# Altium footprint library smdUtilities.PcbLib: 59 footprints (part 2 of 4)
Each footprint in its own frame and in the unit in brackets; x right, y up, seen from the top. Pads: shape width x height; smd on the part's side, far side on the other; paste and mask are expansions set on the pad; w line width, h text height; cw(c..) or ccw(c..) is an arc to the next point about the centre after c.
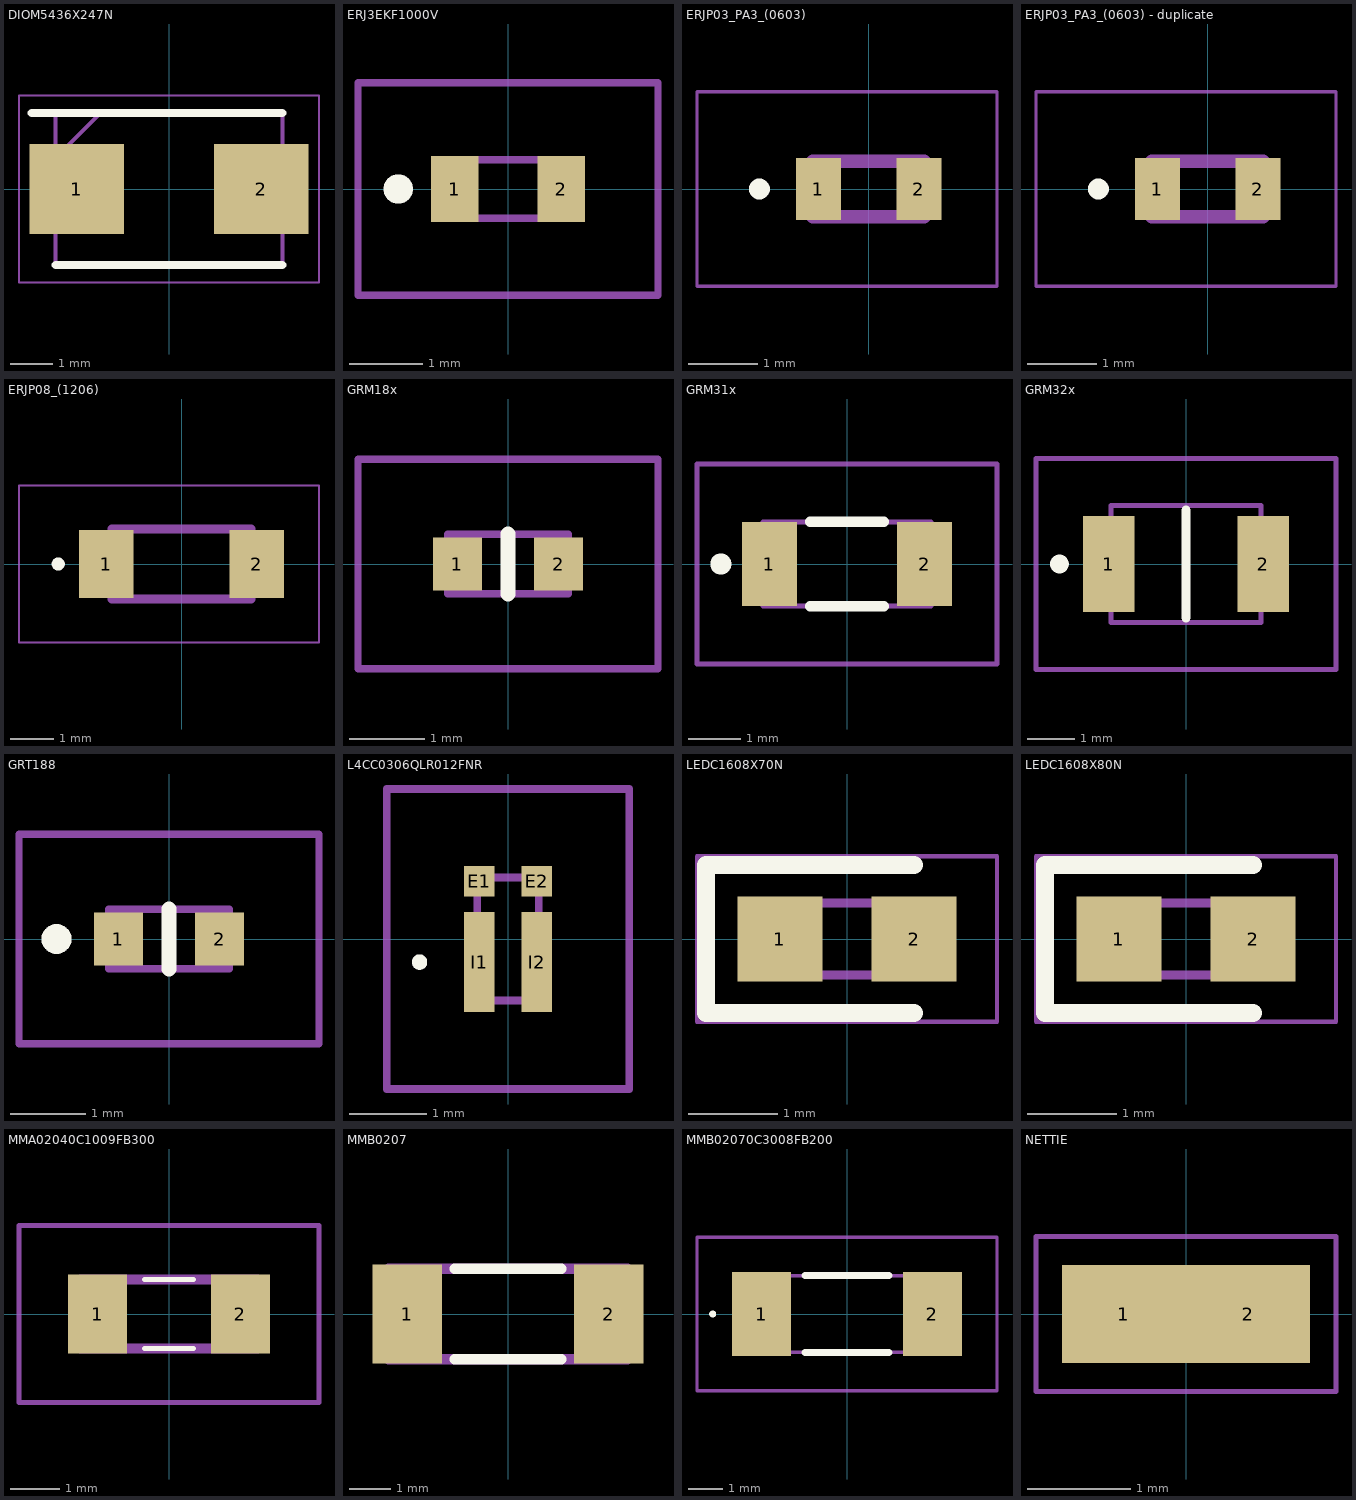
[diagram p1: the footprints below, top view; thin cyan lines are the x and y axes]

## DIOM5436X247N [mm]
pads (2):
  rect 2.25x2.15 smd: 1(-2.2,0) 2(2.2,0)
Top Overlay:
  lines w0.2: -3.275,1.812 2.702,1.812 ; -2.702,-1.812 2.702,-1.812
Mechanical 13:
  lines w0.1: -2.702,0.738 -1.628,1.812 ; -2.702,-1.812 -2.702,1.812 2.702,1.812 2.702,-1.812 -2.702,-1.812
Mechanical 15:
  lines w0.05: -3.575,-2.225 -3.575,2.225 3.575,2.225 3.575,-2.225 -3.575,-2.225
3D body "1SMB5939BT3G.stp": height 2.47, standoff 0, extent -2.702,-1.813 2.702,1.813

## ERJ3EKF1000V [mm]
pads (2):
  rect 0.65x0.9 smd: 1(-0.725,0) 2(0.725,0)
Top Overlay:
  lines w0.2: -1.5,-0.1 cw(c-1.5,0) -1.5,0.1 cw(c-1.5,0) -1.5,-0.1
Mechanical 13:
  lines w0.1: -0.8,-0.4 0.8,-0.4 0.8,0.4 -0.8,0.4 -0.8,-0.4
Mechanical 15:
  lines w0.1: -2.05,-1.45 2.05,-1.45 2.05,1.45 -2.05,1.45 -2.05,-1.45
3D body "ERJ-3GEY0R00V.stp": height 0.45, standoff 0, extent -0.8,-0.4 0.8,0.4

## ERJP03_PA3_(0603) [mm]
pads (2):
  rect 0.65x0.9 smd: 1(-0.725,0) 2(0.725,0)
Top Overlay:
  circle w0.2: c-1.575,0 r0.05
Mechanical 13:
  lines w0.2: -0.8,-0.4 -0.8,0.4 0.8,0.4 0.8,-0.4 -0.8,-0.4
Mechanical 15:
  lines w0.05: -2.475,-1.4 -2.475,1.4 1.85,1.4 1.85,-1.4 -2.475,-1.4
3D body "ERJ-PA3F1000V.stp": height 0.45, standoff 0, extent -0.8,-0.4 0.8,0.4

## ERJP03_PA3_(0603) - duplicate [mm]
pads (2):
  rect 0.65x0.9 smd: 1(-0.725,0) 2(0.725,0)
Top Overlay:
  circle w0.2: c-1.575,0 r0.05
Mechanical 13:
  lines w0.2: -0.8,-0.4 -0.8,0.4 0.8,0.4 0.8,-0.4 -0.8,-0.4
Mechanical 15:
  lines w0.05: -2.475,-1.4 -2.475,1.4 1.85,1.4 1.85,-1.4 -2.475,-1.4
3D body "ERJ-PA3F1101V.stp": height 0.45, standoff 0, extent -0.8,-0.4 0.8,0.4

## ERJP08_(1206) [mm]
pads (2):
  rect 1.25x1.55 smd: 1(-1.725,0) 2(1.725,0)
Top Overlay:
  circle w0.2: c-2.825,0 r0.05
Mechanical 13:
  lines w0.2: -1.6,-0.8 -1.6,0.8 1.6,0.8 1.6,-0.8 -1.6,-0.8
Mechanical 15:
  lines w0.05: -3.725,-1.8 -3.725,1.8 3.15,1.8 3.15,-1.8 -3.725,-1.8
3D body "ERJ-P08J152V.stp": height 0.6, standoff 0, extent -1.6,-0.8 1.6,0.8

## GRM18x [mm]
pads (2):
  rect 0.65x0.7 smd: 1(-0.675,0) 2(0.675,0)
Top Overlay:
  lines w0.2: 0,-0.4 0,0.4
Mechanical 13:
  lines w0.1: -0.8,-0.4 0.8,-0.4 0.8,0.4 -0.8,0.4 -0.8,-0.4
Mechanical 15:
  lines w0.1: -2,-1.4 2,-1.4 2,1.4 -2,1.4 -2,-1.4
3D body "GRM188R61E106KA73D.stp": height 0.8, standoff 0, extent -0.8,-0.45 0.8,0.45

## GRM31x [mm]
pads (2):
  rect 1.05x1.6 smd: 1(-1.475,0) 2(1.475,0)
Top Overlay:
  lines w0.2: -0.7,-0.8 0.7,-0.8 ; -0.7,0.8 0.7,0.8 ; -2.4,-0.1 cw(c-2.4,0) -2.4,0.1 cw(c-2.4,0) -2.4,-0.1
Mechanical 13:
  lines w0.1: -1.6,-0.8 1.6,-0.8 1.6,0.8 -1.6,0.8 -1.6,-0.8
Mechanical 15:
  lines w0.1: -2.854,-1.902 2.854,-1.902 2.854,1.902 -2.854,1.902 -2.854,-1.902
3D body "GRM31A5C2J101FW01D.stp": height 1, standoff 0, extent -1.6,-0.8 1.6,0.8

## GRM32x [mm]
pads (2):
  rect 1.1x2.05 smd: 1(-1.65,0) 2(1.65,0)
Top Overlay:
  lines w0.2: 0,-1.15 0,1.15 ; -2.7,-0.1 ccw(c-2.7,0) -2.7,0.1 ccw(c-2.7,0) -2.7,-0.1
Mechanical 13:
  lines w0.1: -1.6,-1.25 -1.6,1.25 1.6,1.25 1.6,-1.25 -1.6,-1.25
Mechanical 15:
  lines w0.1: -3.2,-2.25 -3.2,2.25 3.2,2.25 3.2,-2.25 -3.2,-2.25
3D body "GRM32E5C3A123JWA1K.stp": height 2.5, standoff 0, extent -1.6,-1.25 1.6,1.25

## GRT188 [mm]
pads (2):
  rect 0.65x0.7 smd: 1(-0.675,0) 2(0.675,0)
Top Overlay:
  lines w0.2: 0,-0.4 0,0.4 ; -1.5,-0.1 ccw(c-1.5,0) -1.5,0.1 ccw(c-1.5,0) -1.5,-0.1
Mechanical 13:
  lines w0.1: -0.8,-0.4 -0.8,0.4 0.8,0.4 0.8,-0.4 -0.8,-0.4
Mechanical 15:
  lines w0.1: -2,-1.4 -2,1.4 2,1.4 2,-1.4 -2,-1.4
3D body "GRT188C71C475KE13D.stp": height 1, standoff 0, extent -0.935,-0.4 0.935,0.4

## L4CC0306QLR012FNR [mm]
pads (4):
  rect 0.4x0.4 smd: E1(-0.375,0.75) E2(0.375,0.75)
  rect 0.4x1.3 smd: I1(-0.375,-0.3) I2(0.375,-0.3)
Top Overlay:
  lines w0.1: -1.2,-0.3 ccw(c-1.15,-0.3) -1.1,-0.3 ccw(c-1.15,-0.3) -1.2,-0.3
Mechanical 13:
  lines w0.1: -0.4,-0.8 0.4,-0.8 0.4,0.8 -0.4,0.8 -0.4,-0.8
Mechanical 15:
  lines w0.1: -1.575,-1.95 1.575,-1.95 1.575,1.95 -1.575,1.95 -1.575,-1.95
3D body "L4CC0306QLR012FNR.stp": height 0.75, standoff 0, extent -0.535,-0.91 0.535,0.91

## LEDC1608X70N [mm]
pads (2):
  rect 0.95x0.95 smd: 1(-0.75,0) 2(0.75,0)
Top Overlay:
  lines w0.2: 0.75,-0.825 -1.575,-0.825 -1.575,0.825 0.75,0.825
Mechanical 13:
  lines w0.1: -0.8,0.133 -0.533,0.4 ; -0.8,-0.4 -0.8,0.4 0.8,0.4 0.8,-0.4 -0.8,-0.4
Mechanical 15:
  lines w0.05: -1.675,-0.925 -1.675,0.925 1.675,0.925 1.675,-0.925 -1.675,-0.925
3D body "150060RS75000.stp": height 0.4, standoff -0.4, extent -0.8,0 0.8,0.7

## LEDC1608X80N [mm]
pads (2):
  rect 0.95x0.95 smd: 1(-0.75,0) 2(0.75,0)
Top Overlay:
  lines w0.2: 0.75,-0.825 -1.575,-0.825 -1.575,0.825 0.75,0.825
Mechanical 13:
  lines w0.1: -0.8,0.133 -0.533,0.4 ; -0.8,-0.4 -0.8,0.4 0.8,0.4 0.8,-0.4 -0.8,-0.4
Mechanical 15:
  lines w0.05: -1.675,-0.925 -1.675,0.925 1.675,0.925 1.675,-0.925 -1.675,-0.925
3D body "150060AS75000.stp": height 0.7, standoff 0, extent -0.8,-0.4 0.8,0.4

## MMA02040C1009FB300 [mm]
pads (2):
  rect 1.2x1.6 smd: 1(-1.45,0) 2(1.45,0)
Top Overlay:
  lines w0.1: -0.5,-0.7 0.5,-0.7 ; -0.5,0.7 0.5,0.7
Mechanical 13:
  lines w0.2: -1.8,-0.7 -1.8,0.7 1.8,0.7 1.8,-0.7 -1.8,-0.7
Mechanical 15:
  lines w0.1: -3.05,-1.8 -3.05,1.8 3.05,1.8 3.05,-1.8 -3.05,-1.8
3D body "MMA02040C1009FB300.stp": height 1.4, standoff 0, extent -1.8,-0.7 1.8,0.7

## MMB0207 [mm]
pads (2):
  rect 1.7x2.4 smd: 1(-2.45,0) 2(2.45,0)
Top Overlay:
  lines w0.254: -1.3,-1.1 1.3,-1.1 ; -1.3,1.1 1.3,1.1
Mechanical 13:
  lines w0.254: -2.9,-1.1 2.9,-1.1 2.9,1.1 -2.9,1.1 -2.9,-1.1
3D body "MMB02070C1000FB200.stp": height 2.2, standoff 0, extent -2.9,-1.1 2.9,1.1

## MMB02070C3008FB200 [mm]
pads (2):
  rect 1.7x2.4 smd: 1(-2.45,0) 2(2.45,0)
Top Overlay:
  lines w0.1: -3.9,0 cw(c-3.85,0) -3.8,0 cw(c-3.85,0) -3.9,0
  lines w0.2: -1.2,-1.1 1.2,-1.1 ; -1.2,1.1 1.2,1.1
Mechanical 13:
  lines w0.1: -2.9,-1.1 2.9,-1.1 2.9,1.1 -2.9,1.1 -2.9,-1.1
Mechanical 15:
  lines w0.1: -4.3,-2.2 4.3,-2.2 4.3,2.2 -4.3,2.2 -4.3,-2.2
3D body "MMB02070C3008FB200.stp": height 2.2, standoff 0, extent -2.9,-1.1 2.9,1.1

## NETTIE [mm]
pads (2):
  rect 1.2x0.95 smd: 1(-0.6,0) 2(0.6,0)
Mechanical 13:
  lines w0.1: -0.775,-0.4 -0.775,0.4 0.775,0.4 0.775,-0.4 -0.775,-0.4
Mechanical 15:
  lines w0.05: -1.45,-0.75 -1.45,0.75 1.45,0.75 1.45,-0.75 -1.45,-0.75